# Altium schematic symbol library PH1-07-UA.SchLib: 1 symbol
Pins are listed as number, name and electrical type; pins without a type are passive.

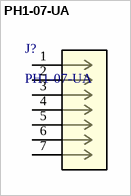
[diagram p0: symbol PH1-07-UA]

## PH1-07-UA
designator J?
No Description Available; Manufacturer_Name: ADAM TECHNOLOGIES INC; Type: Headers, Male Pins; Copyright: Copyright (C) 2026 Ultra Librarian. All rights reserved.; Manufacturer_Part_Number: PH1-07-UA; Digi-Key_Part_Number_1: 2057-PH1-07-UA-ND; RefDes: RefDes
footprint CONN_PH1-07-UA_ADM
pins: 1, 2, 3, 4, 5, 6, 7